# EAGLE library part HF15 (library WakamelibGOOD)
SUB-D
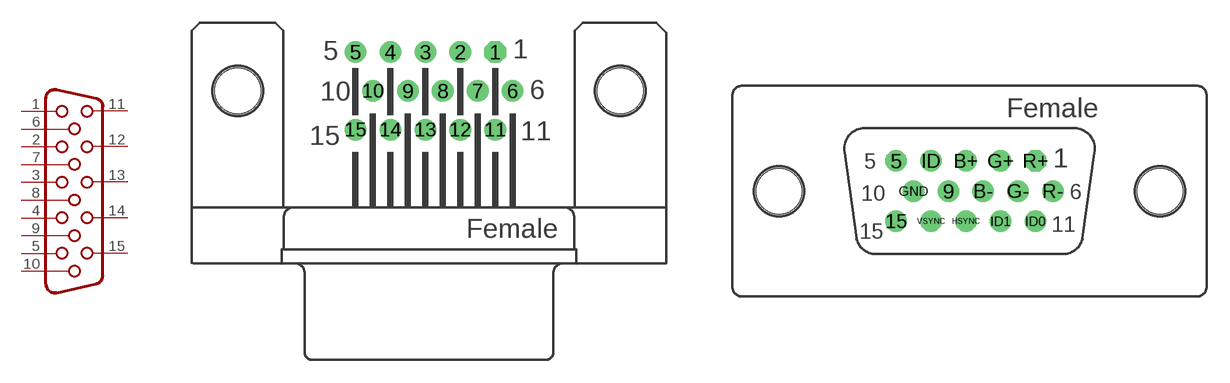
[diagram p8: symbol with the pads of HDF15H; footprints HDF15H, HDF15V]

Designator prefix X

## HF15H (OC_FARNELL: unknown; OC_NEWARK: unknown)  [HDF15H]
1  1  pas
2  2  pas
3  3  pas
4  4  pas
5  5  pas
6  6  pas
7  7  pas
8  8  pas
9  9  pas
10  10  pas
11  11  pas
12  12  pas
13  13  pas
14  14  pas
15  15  pas

## HF15V (OC_FARNELL: unknown; OC_NEWARK: unknown)  [HDF15V]
5  5  pas
9  9  pas
15  15  pas
B+  3  pas
B-  8  pas
G+  2  pas
G-  7  pas
GND  10  pas
HSYNC  13  pas
ID  4  pas
ID0  11  pas
ID1  12  pas
R+  1  pas
R-  6  pas
VSYNC  14  pas

## Footprint HDF15H (pad centres in mm)
SUB-D
drill 0.9 octagon: 1 4.329,2.54
drill 0.9: 2 2.043,2.54; 3 -0.243,2.54; 4 -2.529,2.54; 5 -4.815,2.54; 6 5.472,0; 7 3.186,0; 8 0.9,0; 9 -1.386,0; 10 -3.672,0; 11 4.329,-2.54; 12 2.043,-2.54; 13 -0.243,-2.54; 14 -2.529,-2.54; 15 -4.815,-2.54
hole 3 at -12.5,0
hole 3 at 12.5,0

## Footprint HDF15V (pad centres in mm)
SUB-D
drill 0.9: 5 -4.815,1.98; 9 -1.386,0; 15 -4.815,-1.98; B+ -0.243,1.98; B- 0.9,0; G+ 2.043,1.98; G- 3.186,0; GND -3.672,0; HSYNC -0.243,-1.98; ID -2.529,1.98; ID0 4.329,-1.98; ID1 2.043,-1.98; R- 5.472,0; VSYNC -2.529,-1.98
drill 0.9 octagon: R+ 4.329,1.98
hole 3 at -12.5,0
hole 3 at 12.5,0